# Altium footprint library nizn.PcbLib: 46 footprints (part 3 of 3)
Each footprint in its own frame and in the unit in brackets; x right, y up, seen from the top. Pads: shape width x height; smd on the part's side, far side on the other; paste and mask are expansions set on the pad; w line width, h text height; cw(c..) or ccw(c..) is an arc to the next point about the centre after c.
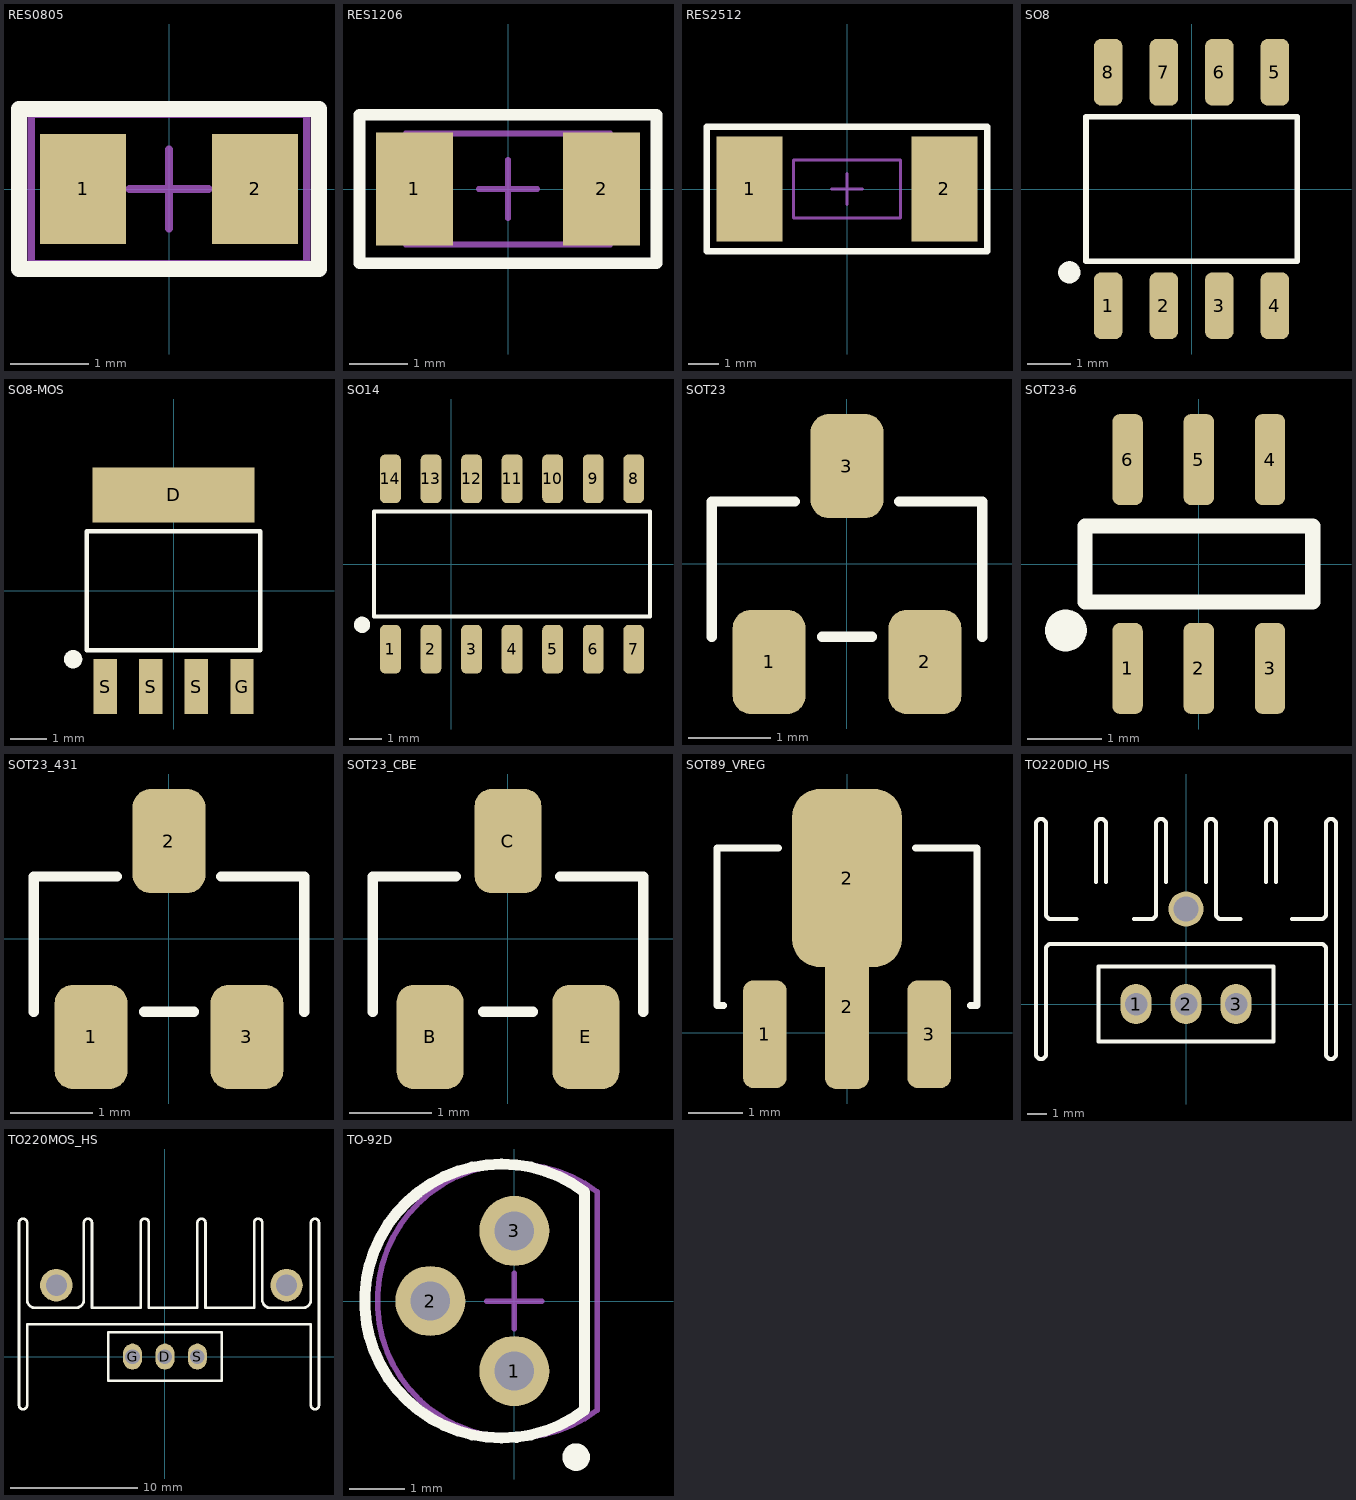
[diagram p2: the footprints below, top view; thin cyan lines are the x and y axes]

## RES0805 [mil]
height 30
pads (2):
  rect 43x55 smd: 1(-43,0) 2(43,0)
Top Overlay:
  lines w8: -75,-40 -75,40 75,40 75,-40 -75,-40
Mechanical 15:
  lines w3.94: -19.68,0 19.69,0 ; 0,-19.68 0,19.69 ; -68.9,-37.4 68.9,-37.4 68.9,37.4 -68.9,37.4 -68.9,-37.4
3D body: height 29.92, standoff 0, extent -44.28,-27.15 46.28,26

## RES1206 [mil]
height 30
pads (2):
  rect 52x76 smd: 1(-63,0) 2(63,0)
Top Overlay:
  lines w8: -100,-50 -100,50 100,50 100,-50 -100,-50
Mechanical 15:
  lines w3.94: -19.68,0 19.69,0 ; 0,-19.68 0,19.69 ; -68.9,-37.4 68.9,-37.4 68.9,37.4 -68.9,37.4 -68.9,-37.4
3D body: height 33.46, standoff 0, extent -66.89,-33.11 65,35

## RES2512 [mil]
height 30
pads (2):
  rect 85x135 smd: 1(-125,0) 2(125,0)
Top Overlay:
  lines w8: -180,-80 180,-80 180,80 -180,80 -180,-80
Mechanical 15:
  lines w3.94: -19.68,0 19.69,0 ; 0,-19.68 0,19.69 ; -68.9,-37.4 -68.9,37.4 68.9,37.4 68.9,-37.4 -68.9,-37.4
3D body: height 25.23, standoff 0, extent -134.3,-65.11 133.42,64.82

## SO8 [mil]
height 100
pads (8):
  rrect50% 25.59x60 smd: 1(-75,-105) 2(-25,-105) 3(25,-105) 4(75,-105) 5(75,105) 6(25,105) 7(-25,105) 8(-75,105)
Top Overlay:
  circle w10: c-110,-75 r5
  lines w5: -95,-65 -95,65 95,65 95,-65 -95,-65
3D body: height 66.93, standoff 0, extent -96.46,-118.1 96.46,118.12

## SO8-MOS [mil]
pads (5):
  rect 177.17x60 smd: D(0,105)
  rect 25.59x60 smd: G(75,-105) S(-75,-105) S(-25,-105) S(25,-105)
Top Overlay:
  circle w10: c-110,-75 r5
  lines w5: -95,-65 -95,65 95,65 95,-65 -95,-65
3D body: height 66.93, standoff 0, extent -96.46,-118.1 96.46,118.12

## SO14 [mil]
height 100
pads (14):
  rrect50% 25.59x60 smd: 1(-75,-105) 2(-25,-105) 3(25,-105) 4(75,-105) 6(175,-105) 7(225,-105) 8(225,105) 9(175,105) 10(125,105) 11(75,105) 12(25,105) 13(-25,105) 14(-75,105)
  rrect50% 25.59x60 smd mask+4: 5(125,-105)
Top Overlay:
  circle w10: c-110,-75 r5
  lines w5: -95,-65 -95,65 245,65 245,-65 -95,-65
3D body: height 68.9, standoff 0, extent -93.3,-114.17 243.31,114.18

## SOT23 [mil]
height 236.22
pads (3):
  rrect50% 35x50 smd: 1(-37.4,-47) 2(37.4,-47) 3(0,47)
Top Overlay:
  lines w5: -65,-35 -65,30 -25,30 ; -12,-35 12,-35 ; 25,30 65,30 65,-35
3D body: height 42.52, standoff 0, extent -59.05,-51.97 59.06,51.97

## SOT23-6 [mil]
height 236.22
pads (6):
  rrect50% 16x48 smd: 1(-37.5,-55) 2(0,-55) 3(37.5,-55) 4(37.5,55) 5(0,55) 6(-37.5,55)
Top Overlay:
  circle w12: c-70,-35 r5
  lines w8: -60,-20 -60,20 60,20 60,-20 -60,-20
3D body: height 33.76, standoff 0, extent -59.05,-55.31 59.06,55.3

## SOT23_431 [mil]
height 236.22
pads (3):
  rrect50% 35x50 smd: 1(-37.4,-47) 2(0,47) 3(37.4,-47)
Top Overlay:
  lines w5: -65,-35 -65,30 -25,30 ; -12,-35 12,-35 ; 25,30 65,30 65,-35
3D body: height 42.52, standoff 0, extent -59.05,-51.97 59.06,51.97

## SOT23_CBE [mil]
height 236.22
pads (3):
  rrect50% 32x50 smd: B(-37.4,-47) C(0,47) E(37.4,-47)
Top Overlay:
  lines w5: -65,-35 -65,30 -25,30 ; -12,-35 12,-35 ; 25,30 65,30 65,-35
3D body: height 42.52, standoff 0, extent -59.05,-51.97 59.06,51.97

## SOT89_VREG [mil]
height 236.22
pads (4):
  rrect50% 32x78.74 smd: 1(-60,-1) 3(60,-1)
  rrect50% 32x120 smd: 2(0,19)
  rrect50% 80x130 smd: 2(0,113)
Top Overlay:
  lines w5: -90,20 -95,20 -95,135 -50,135 ; 50,135 95,135 95,20 90,20
3D body: height 59.45, standoff 0, extent -87.16,-14.64 90,154.64

## TO220DIO_HS [mil]
pads (4):
  oval 62x80 hole 45: 1(-100,0) 2(0,0) 3(100,0)
  round 70 hole 50: ""(0,190)
Top Overlay:
  lines w8: -219,170 -270,170 cw(c-270,180) -280,180 -280,360 ccw(c-290,360) -290,370 ccw(c-290,360) -300,360 -300,-100 ccw(c-290,-100) -290,-110 ccw(c-290,-100) -280,-100 -280,110 cw(c-270,110) -270,120 270,120 cw(c270,110) 280,110 280,-100 ccw(c290,-100) 290,-110 ccw(c290,-100) 300,-100 300,360 ccw(c290,360) 290,370 ccw(c290,360) 280,360 280,180 cw(c270,180) 270,170 212,170 ; -180,244 -180,360 cw(c-170,360) -170,370 cw(c-170,360) -160,360 -160,244 ; -104,170 -70,170 ccw(c-70,180) -60,180 -60,360 cw(c-50,360) -50,370 cw(c-50,360) -40,360 -40,244 ; 40,244 40,360 cw(c50,360) 50,370 cw(c50,360) 60,360 60,180 ccw(c70,180) 70,170 109,170 ; 160,244 160,360 cw(c170,360) 170,370 cw(c170,360) 180,360 180,244 ; -175,-75 -175,75 175,75 175,-75 -175,-75
3D body: height 1150, standoff 0, extent -300.22,-110.22 300.22,370.22
3D body: height 774.8, standoff -385.43, extent -200,-66 200,119.04
3D body: height 300, standoff -100, extent -20.37,169.63 20.37,210.37

## TO220MOS_HS [mil]
pads (5):
  oval 58x80 hole 45: D(0,0) G(-100,0) S(100,0)
  round 100 hole 65: ""(-335,220) ""(375,220)
Top Overlay:
  lines w8: -450,-150 ccw(c-437.5,-150) -437.5,-162.5 ccw(c-437.5,-150) -425,-150 -425,100 450,100 450,-150 ccw(c462.5,-150) 462.5,-162.5 ccw(c462.5,-150) 475,-150 475,412.5 ccw(c462.5,412.5) 462.5,425 ccw(c462.5,412.5) 450,412.5 450,175 cw(c425,175) 425,150 325,150 cw(c325,175) 300,175 300,412.5 ccw(c287.5,412.5) 287.5,425 ccw(c287.5,412.5) 275,412.5 275,150 125,150 125,412.5 ccw(c112.5,412.5) 112.5,425 ccw(c112.5,412.5) 100,412.5 100,150 -50,150 -50,412.5 ccw(c-62.5,412.5) -62.5,425 ccw(c-62.5,412.5) -75,412.5 -75,150 -225,150 -225,412.5 ccw(c-237.5,412.5) -237.5,425 ccw(c-237.5,412.5) -250,412.5 -250,175 cw(c-275,175) -275,150 -400,150 cw(c-400,175) -425,175 -425,412.5 ccw(c-437.5,412.5) -437.5,425 ccw(c-437.5,412.5) -450,412.5 -450,-150 ; -175,-75 175,-75 175,75 -175,75 -175,-75
3D body: height 800, standoff 5, extent -450.27,-162.77 475.27,425.27
3D body: height 774.8, standoff -381.5, extent -198.62,-69.42 200.63,116.41
3D body: height 300, standoff -100, extent -355.37,199.63 -314.63,240.37
3D body: height 300, standoff -100, extent 354.63,199.63 395.37,240.37

## TO-92D [mil]
height 270.08
pads (3):
  round 50 hole 28: 1(0,-50) 2(-60,0) 3(0,50)
Top Overlay:
  circle w9.84: c44.09,-111.42 r4.92
  lines w7.87: 50,-77.95 cw(c-9.05,0) 50,77.95 50,-77.95
Mechanical 13:
  lines w3.94: 59.06,-77.95 cw(c0,0) 59.06,77.95 59.05,-77.95
Mechanical 15:
  lines w3.94: -19.68,0 19.68,0 ; 0,-19.68 0,19.69
3D body: height 314.96, standoff -119.01, extent -94.49,-94.48 60.24,94.49